# Altium footprint library OV2640.PcbLib: 12 footprints
Each footprint in its own frame and in the unit in brackets; x right, y up, seen from the top. Pads: shape width x height; smd on the part's side, far side on the other; paste and mask are expansions set on the pad; w line width, h text height; cw(c..) or ccw(c..) is an arc to the next point about the centre after c.
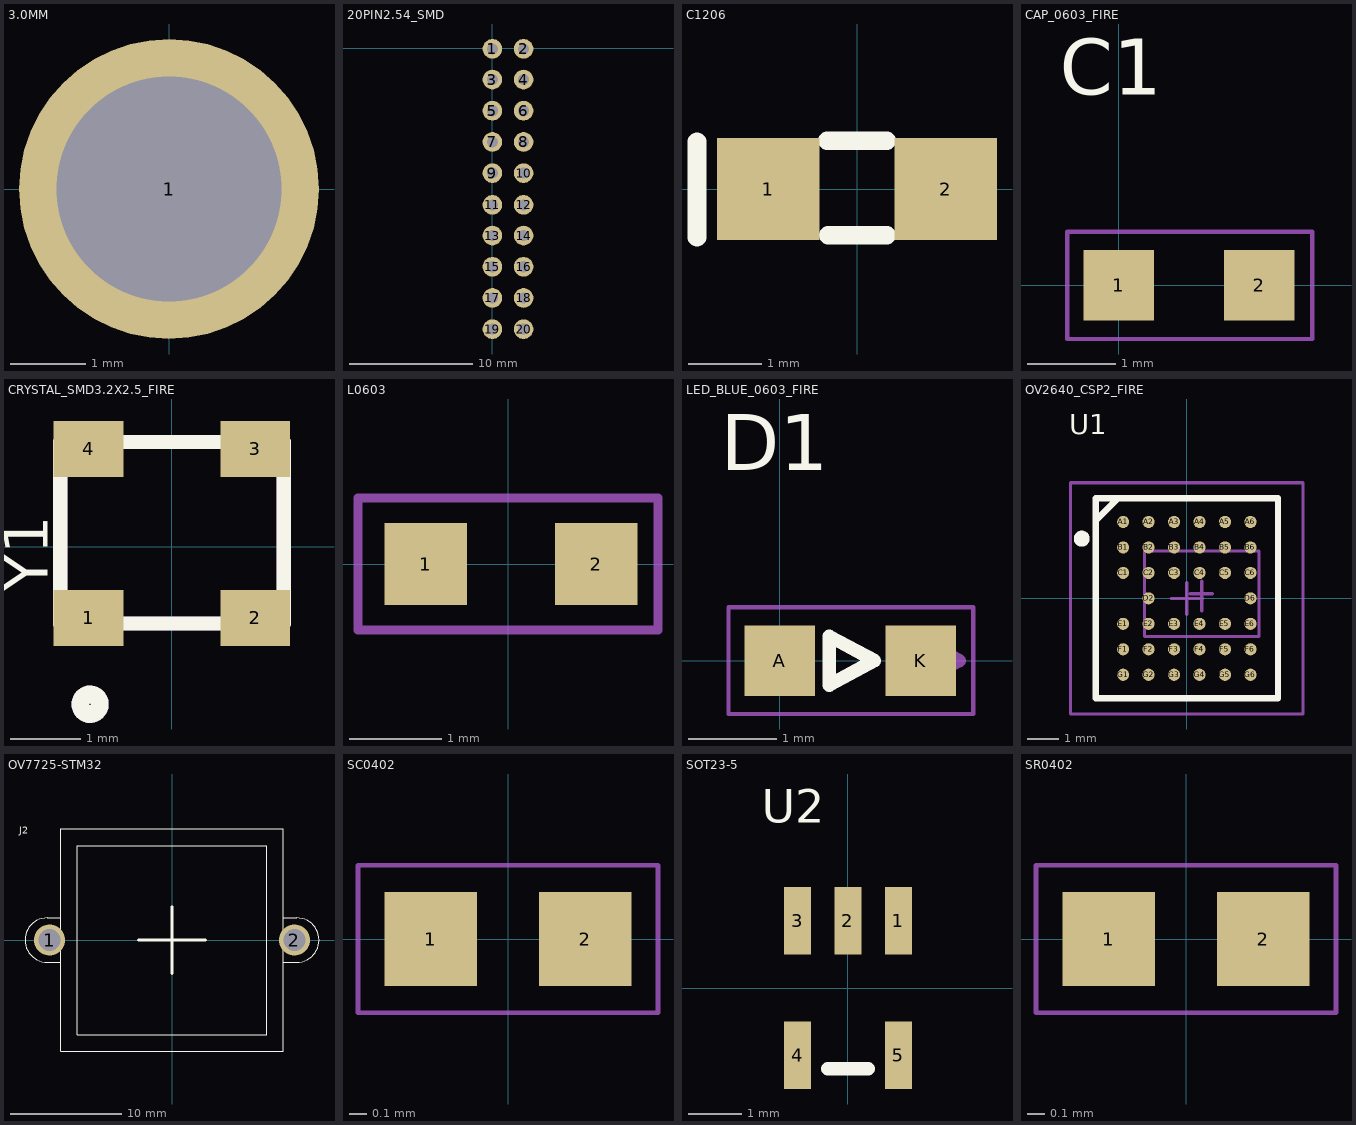
[diagram p0: the footprints below, top view; thin cyan lines are the x and y axes]

## 3.0MM [mm]
pads (1):
  round 4 hole 3: 1(0,0)

## 20PIN2.54_SMD [mm]
pads (20):
  round 1.6 hole 0.9: 1(0,-0.04) 2(2.54,-0.04) 3(0,-2.54) 4(2.54,-2.54) 5(0,-5.08) 6(2.54,-5.08) 7(0,-7.62) 8(2.54,-7.62) 9(0,-10.16) 10(2.54,-10.16) 11(0,-12.74) 12(2.54,-12.74) 13(0,-15.24) 14(2.54,-15.24) 15(0,-17.78) 16(2.54,-17.78) 17(0,-20.32) 18(2.54,-20.32) 19(0,-22.86) 20(2.54,-22.86)

## C1206 [mm]
pads (2):
  rect 1.4x1.4 smd: 1(-1.215,0) 2(1.215,0)
Top Overlay:
  lines w0.254: -2.189,-0.66 -2.189,0.648 ; -0.406,0.66 0.406,0.66 ; -0.394,-0.635 0.406,-0.635

## CAP_0603_FIRE [mm]
pads (2):
  rect 0.8x0.8 smd: 1(0,0) 2(1.6,0)
Top Overlay:
  text "C1" at -0.665,2.161 h0.64
Mechanical 1:
  lines w0.051: -0.584,-0.61 -0.584,0.61 2.197,0.61 2.197,-0.61 -0.584,-0.61

## CRYSTAL_SMD3.2X2.5_FIRE [mm]
pads (4):
  rect 1x0.8 smd: 1(-1.194,-1.019) 2(1.194,-1.019) 3(1.194,1.4) 4(-1.194,1.4)
Top Overlay:
  circle w0.254: c-1.172,-2.257 r0.14
  lines w0.203: -1.6,-1.102 -1.6,1.498 1.6,1.498 1.6,-1.102 -1.6,-1.102
  text "Y1" at -1.778,-0.635 h0.64
Mechanical 1:
  circle w0.254: c-1.172,-2.257 r0.14
  lines w0.203: -1.6,-1.102 -1.6,1.498 1.6,1.498 1.6,-1.102 -1.6,-1.102

## L0603 [mil]
pads (2):
  rect 35x35 smd: 1(-35,0) 2(37.49,0)
Mechanical 1:
  lines w3.94: -63.74,-28 -63.74,28 63.74,28 63.74,-28 -63.74,-28

## LED_BLUE_0603_FIRE [mm]
pads (2):
  rect 0.8x0.8 smd: A(0,0) K(1.6,0)
Top Overlay:
  lines w0.152: 0.562,-0.277 0.562,0.277 1.076,0.001 0.562,-0.277
  text "D1" at -0.665,2.161 h0.64
Mechanical 1:
  lines w0.051: -0.579,-0.605 -0.579,0.607 2.193,0.607 2.193,-0.605 -0.579,-0.605
  lines w0.152: 1.521,-0.277 1.521,0.277 2.035,0.001 1.521,-0.277

## OV2640_CSP2_FIRE [mil]
pads (38):
  round 15 smd mask+0.97: A1(-78.74,94.49) A2(-47.24,94.49) A3(-15.75,94.49) A4(15.75,94.49) A5(47.24,94.49) A6(78.74,94.49) B1(-78.74,62.99) B2(-47.24,62.99) B3(-15.75,62.99) B4(15.75,62.99) B5(47.24,62.99) B6(78.74,62.99) C1(-78.74,31.5) C2(-47.24,31.5) C3(-15.75,31.5) C4(15.75,31.5) C5(47.24,31.5) C6(78.74,31.5) D2(-47.24,0) D6(78.74,0) E1(-78.74,-31.5) E2(-47.24,-31.5) E3(-15.75,-31.5) E4(15.75,-31.5) E5(47.24,-31.5) E6(78.74,-31.5) F1(-78.74,-62.99) F2(-47.24,-62.99) F3(-15.75,-62.99) F4(15.75,-62.99) F5(47.24,-62.99) F6(78.74,-62.99) G1(-78.74,-94.49) G2(-47.24,-94.49) G3(-15.75,-94.49) G4(15.75,-94.49) G5(47.24,-94.49) G6(78.74,-94.49)
Top Layer:
  text "U1" at -145.67,102.98 h50
Top Overlay:
  circle w9.84: c-129.92,73.82 r4.92
  lines w7.87: -111.05,97.61 -85.8,122.87 ; -112.72,-123.74 112.72,-123.74 112.72,123.74 -112.72,123.74 -112.72,-123.74
  text "U1" at -145.67,202.98 h25
Mechanical 1:
  lines w3.94: 3.94,5.71 31.5,5.71 ; 18.49,-15.75 18.49,21.46 ; -52.19,-47.13 89.17,-47.13 89.17,58.54 -52.19,58.54 -52.19,-47.13
Mechanical 16:
  lines w3.94: -19.69,0 19.68,0 ; 0,-19.68 0,19.68 ; -143.7,-143.01 143.7,-143.01 143.7,143.01 -143.7,143.01 -143.7,-143.01 ; -112.72,-123.74 112.72,-123.74 112.72,123.74 -112.72,123.74 -112.72,-123.74

## OV7725-STM32 [mm]
pads (2):
  round 2.8 hole 2: 1(-11,0) 2(11,0)
Top Overlay:
  lines w0.1: -10.018,2 -11.208,2 ccw(c-11.208,0) -11.208,-2 -10.016,-2 ; 10.004,-2 11.208,-2 ccw(c11.208,0) 11.208,2 10.01,2 ; -10,-10 10,-10 10,10 -10,10 -10,-10 ; -8.5,-8.5 8.5,-8.5 8.5,8.5 -8.5,8.5 -8.5,-8.5
  lines w0.254: -3,0 3,0 ; 0,-3 0,3
  text "J2" at -13.752,9.567 h0.64

## SC0402 [mm]
pads (2):
  rect 0.52x0.53 smd: 1(-0.435,0) 2(0.435,0)
Mechanical 1:
  lines w0.025: -0.845,-0.415 -0.845,0.415 0.845,0.415 0.845,-0.415 -0.845,-0.415

## SOT23-5 [mil]
pads (5):
  rect 20x50 smd: 1(37.5,50) 2(0,50) 3(-37.5,50) 4(-37.5,-50) 5(37.5,-50)
Top Overlay:
  lines w10: -15,-60 15,-60
  text "U2" at -63.98,122.96 h25

## SR0402 [mm]
pads (2):
  rect 0.52x0.53 smd: 1(-0.435,0) 2(0.435,0)
Top Layer:
  text "R1" at -0.12,-0.108 h0.19
Mechanical 1:
  lines w0.025: -0.845,-0.415 -0.845,0.415 0.845,0.415 0.845,-0.415 -0.845,-0.415